# Altium schematic symbol library MOSFET IPG20N06S4-15A.Schlib: 1 symbol
Pins are listed as number, name and electrical type; pins without a type are passive.

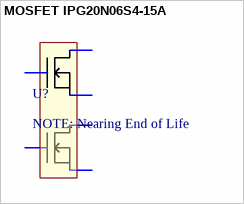
[diagram p0: symbol MOSFET IPG20N06S4-15A]

## MOSFET IPG20N06S4-15A
designator U?, comment NOTE: Nearing End of Life
MOSFET N+N 60V 20A; MF: Infineon Technologies; Supplier 1: Mouser; Supplier Part Number 1: 726-IPG20N06S415ATMA
footprint PG-TDSON-8-10 (Infineon specific mosfet array footprint)
pins: 1 S1, 2 G1, 3 S2, 4 G2, 6 D2, 8 D1